# Altium footprint library VQFN_59_RSH.PcbLib: 1 footprints
Each footprint in its own frame and in the unit in brackets; x right, y up, seen from the top. Pads: shape width x height; smd on the part's side, far side on the other; paste and mask are expansions set on the pad; w line width, h text height; cw(c..) or ccw(c..) is an arc to the next point about the centre after c.
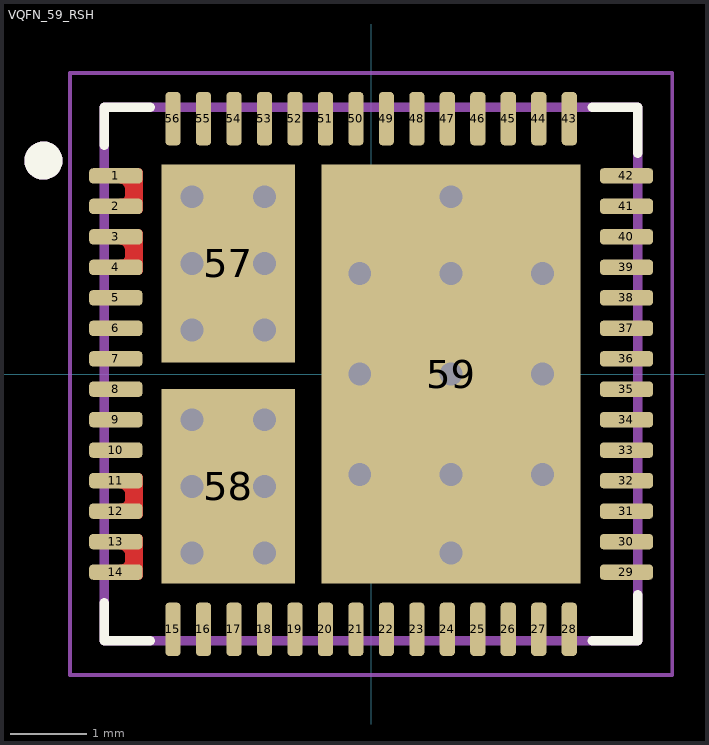
[diagram p0: the footprint, top view; thin cyan lines are the x and y axes]

## VQFN_59_RSH [mm]
pads (59):
  rrect50% 0.7x0.2 smd mask+0.05: 1(-3.35,2.6) 2(-3.35,2.2) 3(-3.35,1.8) 4(-3.35,1.4) 5(-3.35,1) 6(-3.35,0.6) 7(-3.35,0.2) 8(-3.35,-0.2) 9(-3.35,-0.6) 10(-3.35,-1) 11(-3.35,-1.4) 12(-3.35,-1.8) 13(-3.35,-2.2) 14(-3.35,-2.6) 29(3.35,-2.6) 30(3.35,-2.2) 31(3.35,-1.8) 32(3.35,-1.4) 33(3.35,-1) 34(3.35,-0.6) 35(3.35,-0.2) 36(3.35,0.2) 37(3.35,0.6) 38(3.35,1) 39(3.35,1.4) 40(3.35,1.8) 41(3.35,2.2) 42(3.35,2.6)
  rrect50% 0.2x0.7 smd mask+0.05: 15(-2.6,-3.35) 16(-2.2,-3.35) 17(-1.8,-3.35) 18(-1.4,-3.35) 19(-1,-3.35) 20(-0.6,-3.35) 21(-0.2,-3.35) 22(0.2,-3.35) 23(0.6,-3.35) 24(1,-3.35) 25(1.4,-3.35) 26(1.8,-3.35) 27(2.2,-3.35) 28(2.6,-3.35) 43(2.6,3.35) 44(2.2,3.35) 45(1.8,3.35) 46(1.4,3.35) 47(1,3.35) 48(0.6,3.35) 49(0.2,3.35) 50(-0.2,3.35) 51(-0.6,3.35) 52(-1,3.35) 53(-1.4,3.35) 54(-1.8,3.35) 55(-2.2,3.35) 56(-2.6,3.35)
  rect 1.75x2.6 smd paste-100 mask+0.05: 57(-1.875,1.45)
  rect 1.75x2.55 smd paste-100 mask+0.05: 58(-1.875,-1.475)
  rect 3.4x5.5 smd paste-100 mask+0.05: 59(1.05,0)
via -2.35,2.325 diameter 0.6 hole 0.3
via -1.4,2.325 diameter 0.6 hole 0.3
via 1.05,2.325 diameter 0.6 hole 0.3
via 1.05,1.32 diameter 0.6 hole 0.3
via -0.15,1.32 diameter 0.6 hole 0.3
via -0.15,0 diameter 0.6 hole 0.3
via 1.05,0 diameter 0.6 hole 0.3
via 2.25,0 diameter 0.6 hole 0.3
via 2.25,1.32 diameter 0.6 hole 0.3
via 2.25,-1.32 diameter 0.6 hole 0.3
via 1.05,-1.32 diameter 0.6 hole 0.3
via -0.15,-1.32 diameter 0.6 hole 0.3
via 1.05,-2.35 diameter 0.6 hole 0.3
via -1.4,-2.35 diameter 0.6 hole 0.3
via -2.35,-2.35 diameter 0.6 hole 0.3
via -2.35,-1.475 diameter 0.6 hole 0.3
via -1.4,-1.475 diameter 0.6 hole 0.3
via -1.4,-0.6 diameter 0.6 hole 0.3
via -2.35,-0.6 diameter 0.6 hole 0.3
via -2.35,0.575 diameter 0.6 hole 0.3
via -1.4,0.575 diameter 0.6 hole 0.3
via -1.4,1.45 diameter 0.6 hole 0.3
via -2.35,1.45 diameter 0.6 hole 0.3
Top Layer:
  region: -3.225,-2.375 -3.226,-2.36 -3.238,-2.333 -3.258,-2.313 -3.285,-2.301 -3.3,-2.3 -3.3,-2.1 -3.05,-2.1 -3.04,-2.1 -3.022,-2.108 -3.008,-2.122 -3,-2.14 -3,-2.15 -3,-2.65 -3,-2.66 -3.008,-2.678 -3.022,-2.692 -3.04,-2.7 -3.05,-2.7 -3.225,-2.7 -3.24,-2.7 -3.267,-2.689 -3.289,-2.667 -3.3,-2.64 -3.3,-2.625 -3.3,-2.5 -3.275,-2.5 -3.265,-2.499 -3.247,-2.492 -3.233,-2.478 -3.226,-2.46 -3.225,-2.45
  region: -3.225,-1.575 -3.226,-1.56 -3.238,-1.533 -3.258,-1.513 -3.285,-1.501 -3.3,-1.5 -3.3,-1.3 -3.05,-1.3 -3.04,-1.3 -3.022,-1.308 -3.008,-1.322 -3,-1.34 -3,-1.35 -3,-1.85 -3,-1.86 -3.008,-1.878 -3.022,-1.892 -3.04,-1.9 -3.05,-1.9 -3.225,-1.9 -3.24,-1.9 -3.267,-1.889 -3.289,-1.867 -3.3,-1.84 -3.3,-1.825 -3.3,-1.7 -3.275,-1.7 -3.265,-1.699 -3.247,-1.692 -3.233,-1.678 -3.226,-1.66 -3.225,-1.65
  region: -3.225,1.625 -3.226,1.64 -3.238,1.667 -3.258,1.687 -3.285,1.699 -3.3,1.7 -3.3,1.9 -3.05,1.9 -3.04,1.9 -3.022,1.892 -3.008,1.878 -3,1.86 -3,1.85 -3,1.35 -3,1.34 -3.008,1.322 -3.022,1.308 -3.04,1.3 -3.05,1.3 -3.225,1.3 -3.24,1.3 -3.267,1.311 -3.289,1.333 -3.3,1.36 -3.3,1.375 -3.3,1.5 -3.275,1.5 -3.265,1.501 -3.247,1.508 -3.233,1.522 -3.226,1.54 -3.225,1.55
  region: -3.225,2.425 -3.226,2.44 -3.238,2.467 -3.258,2.487 -3.285,2.499 -3.3,2.5 -3.3,2.7 -3.05,2.7 -3.04,2.7 -3.022,2.692 -3.008,2.678 -3,2.66 -3,2.65 -3,2.15 -3,2.14 -3.008,2.122 -3.022,2.108 -3.04,2.1 -3.05,2.1 -3.225,2.1 -3.24,2.1 -3.267,2.111 -3.289,2.133 -3.3,2.16 -3.3,2.175 -3.3,2.3 -3.275,2.3 -3.265,2.301 -3.247,2.308 -3.233,2.322 -3.226,2.34 -3.225,2.35
Top Overlay:
  circle w0.3: c-4.3,2.8 r0.1
  lines w0.127: -3.5,-3 -3.5,-3.5 -2.9,-3.5 ; -3.5,3 -3.5,3.5 -2.9,3.5 ; 2.9,-3.5 3.5,-3.5 3.5,-2.9 ; 2.9,3.5 3.5,3.5 3.5,2.9
Top Paste:
  drawing of 19 lines, arcs and shapes, not listed
Top Solder:
  drawing of 52 lines, arcs and shapes, not listed
Top Assembly:
  circle w0.3: c-4.3,2.8 r0.1
  circle w0.3: c-4.3,2.8 r0.1
  lines w0.127: -3.5,-3.5 -3.5,3.5 ; -3.5,-3.5 -3.5,3.5 ; -3.5,-3.5 3.5,-3.5 ; -3.5,-3.5 3.5,-3.5 ; -3.5,3.5 3.5,3.5 ; -3.5,3.5 3.5,3.5 ; 3.5,-3.5 3.5,3.5 ; 3.5,-3.5 3.5,3.5
Top Courtyard:
  lines w0.05: -3.95,-3.95 3.95,-3.95 3.95,3.95 -3.95,3.95 -3.95,-3.95
3D body "TPS65987DDHRSHR--3DModel-STEP-56544.STEP": height 1, standoff 0, extent -3.5,-3.5 3.5,3.5